# Altium footprint library SamacSys.PcbLib: 46 footprints (part 2 of 3)
Each footprint in its own frame and in the unit in brackets; x right, y up, seen from the top. Pads: shape width x height; smd on the part's side, far side on the other; paste and mask are expansions set on the pad; w line width, h text height; cw(c..) or ccw(c..) is an arc to the next point about the centre after c.
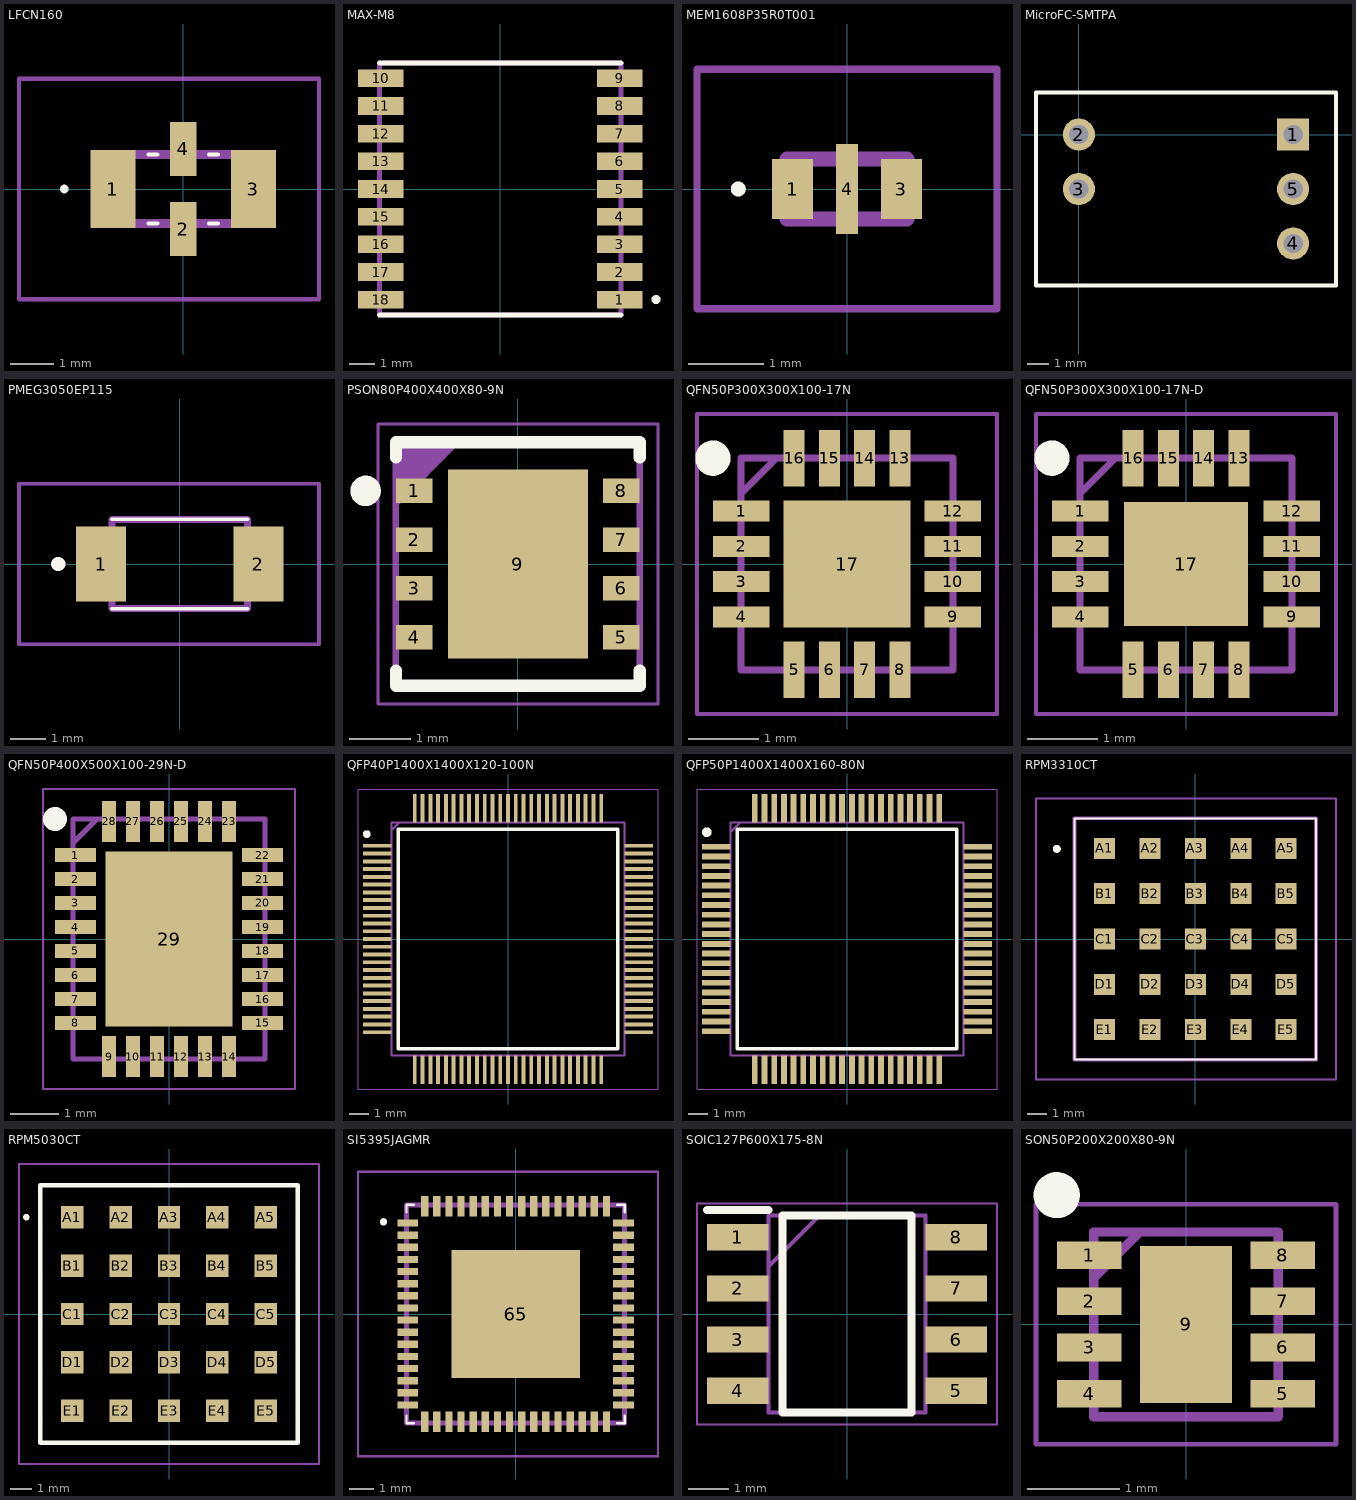
[diagram p1: the footprints below, top view; thin cyan lines are the x and y axes]

## LFCN160 [mm]
pads (4):
  rect 1.04x1.8 smd: 1(-1.625,0) 3(1.625,0)
  rect 0.61x1.245 smd: 2(0,-0.927) 4(0,0.928)
Top Overlay:
  lines w0.1: -0.8,-0.8 -0.6,-0.8 ; -0.8,0.8 -0.6,0.8 ; 0.6,-0.8 0.8,-0.8 ; 0.6,0.8 0.8,0.8 ; -2.8,0 ccw(c-2.75,0) -2.7,0 ccw(c-2.75,0) -2.8,0
Mechanical 13:
  lines w0.2: -1.6,-0.8 1.6,-0.8 1.6,0.8 -1.6,0.8 -1.6,-0.8
Mechanical 15:
  lines w0.1: -3.8,-2.55 3.145,-2.55 3.145,2.55 -3.8,2.55 -3.8,-2.55

## MAX-M8 [mm]
pads (18):
  rect 1.8x0.7 smd: 1(4.75,-4.4) 2(4.75,-3.3) 3(4.75,-2.2) 4(4.75,-1.1) 5(4.75,0) 6(4.75,1.1) 7(4.75,2.2) 8(4.75,3.3) 9(4.75,4.4) 10(-4.75,4.4) 11(-4.75,3.3) 12(-4.75,2.2) 13(-4.75,1.1) 14(-4.75,0) 15(-4.75,-1.1) 16(-4.75,-2.2) 17(-4.75,-3.3) 18(-4.75,-4.4)
Top Overlay:
  circle w0.2: c6.194,-4.394 r0.078
  lines w0.2: -4.8,-5 4.8,-5 ; -4.8,5 4.8,5
Mechanical 13:
  lines w0.2: -4.8,-5 -4.8,5 4.8,5 4.8,-5 -4.8,-5
3D body "MAX-M8Q--3DModel-STEP-56544.STEP": height 2.7, standoff 0, extent -4.85,-5.05 4.85,5.05

## MEM1608P35R0T001 [mm]
pads (3):
  rect 0.55x0.8 smd: 1(-0.725,0) 3(0.725,0)
  rect 0.3x1.2 smd: 4(0,0)
Top Overlay:
  lines w0.1: -1.5,0 ccw(c-1.45,0) -1.4,0 ccw(c-1.45,0) -1.5,0
Mechanical 13:
  lines w0.2: -0.8,-0.4 -0.8,0.4 0.8,0.4 0.8,-0.4 -0.8,-0.4
Mechanical 15:
  lines w0.1: -2,-1.6 -2,1.6 2,1.6 2,-1.6 -2,-1.6
3D body "MEM1608P35R0T001.stp": height 0.8, standoff 0, extent -0.945,-0.57 0.945,0.57

## MicroFC-SMTPA [mm]
pads (5):
  rect 1.5x1.5 hole 0.9: 1(10,0)
  round 1.5 hole 0.9: 2(0,0) 3(0,-2.54) 4(10,-5.08) 5(10,-2.54)
Top Overlay:
  lines w0.2: -2,-7.04 12,-7.04 12,1.96 -2,1.96 -2,-7.04
3D body: height 8, standoff 0, extent -1.905,-6.985 11.938,1.905

## PMEG3050EP115 [mm]
pads (2):
  rect 1.4x2.1 smd: 1(-2.2,0) 2(2.2,0)
Top Overlay:
  lines w0.1: -1.9,-1.25 1.9,-1.25 ; -1.9,1.25 1.9,1.25
  lines w0.2: -3.4,-0.1 cw(c-3.4,0) -3.4,0.1 cw(c-3.4,0) -3.4,-0.1
Mechanical 13:
  lines w0.2: -1.9,-1.25 -1.9,1.25 1.9,1.25 1.9,-1.25 -1.9,-1.25
Mechanical 15:
  lines w0.1: -4.5,-2.25 -4.5,2.25 3.9,2.25 3.9,-2.25 -4.5,-2.25
3D body "PMEG3050EP,115.stp": height 1.08, standoff 0.01, extent -2.326,-1.345 2.374,1.255

## PSON80P400X400X80-9N [mm]
pads (9):
  rect 0.6x0.4 smd: 1(-1.7,1.2) 2(-1.7,0.4) 3(-1.7,-0.4) 4(-1.7,-1.2) 5(1.7,-1.2) 6(1.7,-0.4) 7(1.7,0.4) 8(1.7,1.2)
  rect 2.3x3.1 smd: 9(0,0)
Top Overlay:
  circle w0.25: c-2.5,1.2 r0.125
  lines w0.2: -2,-1.75 -2,-2 2,-2 2,-1.75 ; -2,1.75 -2,2 2,2 2,1.75
Mechanical 13:
  lines w0.1: -2,1 -1,2 ; -2,1.1 -1.1,2 ; -2,1.2 -1.2,2 ; -2,1.3 -1.3,2 ; -2,1.4 -1.4,2 ; -2,1.5 -1.5,2 ; -2,1.6 -1.6,2 ; -2,1.7 -1.7,2 ; -2,1.8 -1.8,2 ; -2,1.9 -1.9,2 ; -2,-2 2,-2 2,2 -2,2 -2,-2
Mechanical 15:
  circle w0.05: c0,0 r0.35
  lines w0.001: -2.05,-2.05 2.05,-2.05 2.05,2.05 -2.05,2.05 -2.05,-2.05
  lines w0.05: -0.5,0 0.5,0 ; 0,-0.5 0,0.5 ; -2.3,-2.3 2.3,-2.3 2.3,2.3 -2.3,2.3 -2.3,-2.3
3D body "LM1086ILD-3.3_NOPB.stp": height 0.77, standoff 0, extent -2,-2 2,2

## QFN50P300X300X100-17N [mm]
pads (17):
  rect 0.8x0.3 smd: 1(-1.5,0.75) 2(-1.5,0.25) 3(-1.5,-0.25) 4(-1.5,-0.75) 9(1.5,-0.75) 10(1.5,-0.25) 11(1.5,0.25) 12(1.5,0.75)
  rect 0.3x0.8 smd: 5(-0.75,-1.5) 6(-0.25,-1.5) 7(0.25,-1.5) 8(0.75,-1.5) 13(0.75,1.5) 14(0.25,1.5) 15(-0.25,1.5) 16(-0.75,1.5)
  rect 1.8x1.8 smd: 17(0,0)
Top Overlay:
  circle w0.25: c-1.9,1.5 r0.125
Mechanical 13:
  lines w0.1: -1.5,1 -1,1.5 ; -1.5,-1.5 1.5,-1.5 1.5,1.5 -1.5,1.5 -1.5,-1.5
Mechanical 15:
  lines w0.05: -2.125,-2.125 2.125,-2.125 2.125,2.125 -2.125,2.125 -2.125,-2.125
3D body "LM324QT.stp": height 1, standoff 0, extent -1.55,-1.55 1.55,1.55

## QFN50P300X300X100-17N-D [mm]
pads (17):
  rect 0.8x0.3 smd: 1(-1.5,0.75) 2(-1.5,0.25) 3(-1.5,-0.25) 4(-1.5,-0.75) 9(1.5,-0.75) 10(1.5,-0.25) 11(1.5,0.25) 12(1.5,0.75)
  rect 0.3x0.8 smd: 5(-0.75,-1.5) 6(-0.25,-1.5) 7(0.25,-1.5) 8(0.75,-1.5) 13(0.75,1.5) 14(0.25,1.5) 15(-0.25,1.5) 16(-0.75,1.5)
  rect 1.75x1.75 smd: 17(0,0)
Top Overlay:
  circle w0.25: c-1.9,1.5 r0.125
Mechanical 13:
  lines w0.1: -1.5,1 -1,1.5 ; -1.5,-1.5 -1.5,1.5 1.5,1.5 1.5,-1.5 -1.5,-1.5
Mechanical 15:
  lines w0.05: -2.125,-2.125 -2.125,2.125 2.125,2.125 2.125,-2.125 -2.125,-2.125
3D body "LMH32401IRGTT.stp": height 1, standoff 0, extent -1.55,-1.55 1.55,1.55

## QFN50P400X500X100-29N-D [mm]
pads (29):
  rect 0.85x0.3 smd: 1(-1.95,1.75) 2(-1.95,1.25) 3(-1.95,0.75) 4(-1.95,0.25) 5(-1.95,-0.25) 6(-1.95,-0.75) 7(-1.95,-1.25) 8(-1.95,-1.75) 15(1.95,-1.75) 16(1.95,-1.25) 17(1.95,-0.75) 18(1.95,-0.25) 19(1.95,0.25) 20(1.95,0.75) 21(1.95,1.25) 22(1.95,1.75)
  rect 0.3x0.85 smd: 9(-1.25,-2.45) 10(-0.75,-2.45) 11(-0.25,-2.45) 12(0.25,-2.45) 13(0.75,-2.45) 14(1.25,-2.45) 23(1.25,2.45) 24(0.75,2.45) 25(0.25,2.45) 26(-0.25,2.45) 27(-0.75,2.45) 28(-1.25,2.45)
  rect 2.65x3.65 smd: 29(0,0)
Top Overlay:
  circle w0.25: c-2.375,2.5 r0.125
Mechanical 13:
  lines w0.1: -2,2 -1.5,2.5 ; -2,-2.5 2,-2.5 2,2.5 -2,2.5 -2,-2.5
Mechanical 15:
  lines w0.05: -2.625,-3.125 2.625,-3.125 2.625,3.125 -2.625,3.125 -2.625,-3.125
3D body "LMH32404IRHFR.stp": height 1, standoff 0, extent -2,-2.5 2,2.5

## QFP40P1400X1400X120-100N [mm]
pads (100):
  rect 1.475x0.2 smd: 1(-6.738,4.8) 2(-6.738,4.4) 3(-6.738,4) 4(-6.738,3.6) 5(-6.738,3.2) 6(-6.738,2.8) 7(-6.738,2.4) 8(-6.738,2) 9(-6.738,1.6) 10(-6.738,1.2) 11(-6.738,0.8) 12(-6.738,0.4) 13(-6.738,0) 14(-6.738,-0.4) 15(-6.738,-0.8) 16(-6.738,-1.2) 17(-6.738,-1.6) 18(-6.738,-2) 19(-6.738,-2.4) 20(-6.738,-2.8) 21(-6.738,-3.2) 22(-6.738,-3.6) 23(-6.738,-4) 24(-6.738,-4.4) 25(-6.738,-4.8) 51(6.738,-4.8) 52(6.738,-4.4) 53(6.738,-4) 54(6.738,-3.6) 55(6.738,-3.2) 56(6.738,-2.8) 57(6.738,-2.4) 58(6.738,-2) 59(6.738,-1.6) 60(6.738,-1.2) 61(6.738,-0.8) 62(6.738,-0.4) 63(6.738,0) 64(6.738,0.4) 65(6.738,0.8) 66(6.738,1.2) 67(6.738,1.6) 68(6.738,2) 69(6.738,2.4) 70(6.738,2.8) 71(6.738,3.2) 72(6.738,3.6) 73(6.738,4) 74(6.738,4.4) 75(6.738,4.8)
  rect 0.2x1.475 smd: 26(-4.8,-6.738) 27(-4.4,-6.738) 28(-4,-6.738) 29(-3.6,-6.738) 30(-3.2,-6.738) 31(-2.8,-6.738) 32(-2.4,-6.738) 33(-2,-6.738) 34(-1.6,-6.738) 35(-1.2,-6.738) 36(-0.8,-6.738) 37(-0.4,-6.738) 38(0,-6.738) 39(0.4,-6.738) 40(0.8,-6.738) 41(1.2,-6.738) 42(1.6,-6.738) 43(2,-6.738) 44(2.4,-6.738) 45(2.8,-6.738) 46(3.2,-6.738) 47(3.6,-6.738) 48(4,-6.738) 49(4.4,-6.738) 50(4.8,-6.738) 76(4.8,6.738) 77(4.4,6.738) 78(4,6.738) 79(3.6,6.738) 80(3.2,6.738) 81(2.8,6.738) 82(2.4,6.738) 83(2,6.738) 84(1.6,6.738) 85(1.2,6.738) 86(0.8,6.738) 87(0.4,6.738) 88(0,6.738) 89(-0.4,6.738) 90(-0.8,6.738) 91(-1.2,6.738) 92(-1.6,6.738) 93(-2,6.738) 94(-2.4,6.738) 95(-2.8,6.738) 96(-3.2,6.738) 97(-3.6,6.738) 98(-4,6.738) 99(-4.4,6.738) 100(-4.8,6.738)
Top Overlay:
  circle w0.2: c-7.275,5.4 r0.1
  lines w0.2: -5.65,-5.65 -5.65,5.65 5.65,5.65 5.65,-5.65 -5.65,-5.65
Mechanical 13:
  lines w0.1: -6,5.6 -5.6,6 ; -6,-6 -6,6 6,6 6,-6 -6,-6
Mechanical 15:
  lines w0.05: -7.725,-7.725 -7.725,7.725 7.725,7.725 7.725,-7.725 -7.725,-7.725
3D body "PIC24FJ512GL410-I_PT.stp": height 1.2, standoff 0, extent -7,-7 7,7

## QFP50P1400X1400X160-80N [mm]
pads (80):
  rect 1.475x0.3 smd: 1(-6.738,4.75) 2(-6.738,4.25) 3(-6.738,3.75) 4(-6.738,3.25) 5(-6.738,2.75) 6(-6.738,2.25) 7(-6.738,1.75) 8(-6.738,1.25) 9(-6.738,0.75) 10(-6.738,0.25) 11(-6.738,-0.25) 12(-6.738,-0.75) 13(-6.738,-1.25) 14(-6.738,-1.75) 15(-6.738,-2.25) 16(-6.738,-2.75) 17(-6.738,-3.25) 18(-6.738,-3.75) 19(-6.738,-4.25) 20(-6.738,-4.75) 41(6.738,-4.75) 42(6.738,-4.25) 43(6.738,-3.75) 44(6.738,-3.25) 45(6.738,-2.75) 46(6.738,-2.25) 47(6.738,-1.75) 48(6.738,-1.25) 49(6.738,-0.75) 50(6.738,-0.25) 51(6.738,0.25) 52(6.738,0.75) 53(6.738,1.25) 54(6.738,1.75) 55(6.738,2.25) 56(6.738,2.75) 57(6.738,3.25) 58(6.738,3.75) 59(6.738,4.25) 60(6.738,4.75)
  rect 0.3x1.475 smd: 21(-4.75,-6.738) 22(-4.25,-6.738) 23(-3.75,-6.738) 24(-3.25,-6.738) 25(-2.75,-6.738) 26(-2.25,-6.738) 27(-1.75,-6.738) 28(-1.25,-6.738) 29(-0.75,-6.738) 30(-0.25,-6.738) 31(0.25,-6.738) 32(0.75,-6.738) 33(1.25,-6.738) 34(1.75,-6.738) 35(2.25,-6.738) 36(2.75,-6.738) 37(3.25,-6.738) 38(3.75,-6.738) 39(4.25,-6.738) 40(4.75,-6.738) 61(4.75,6.738) 62(4.25,6.738) 63(3.75,6.738) 64(3.25,6.738) 65(2.75,6.738) 66(2.25,6.738) 67(1.75,6.738) 68(1.25,6.738) 69(0.75,6.738) 70(0.25,6.738) 71(-0.25,6.738) 72(-0.75,6.738) 73(-1.25,6.738) 74(-1.75,6.738) 75(-2.25,6.738) 76(-2.75,6.738) 77(-3.25,6.738) 78(-3.75,6.738) 79(-4.25,6.738) 80(-4.75,6.738)
Top Overlay:
  circle w0.25: c-7.225,5.5 r0.125
  lines w0.2: -5.65,-5.65 -5.65,5.65 5.65,5.65 5.65,-5.65 -5.65,-5.65
Mechanical 13:
  lines w0.1: -6,5.5 -5.5,6 ; -6,-6 -6,6 6,6 6,-6 -6,-6
Mechanical 15:
  lines w0.05: -7.725,-7.725 -7.725,7.725 7.725,7.725 7.725,-7.725 -7.725,-7.725
3D body "BU97540KV-ME2.stp": height 1.6, standoff 0, extent -7,-7 7,7

## RPM3310CT [mm]
pads (25):
  rect 1.06x1.06 smd: A1(-4.58,4.58) A2(-2.29,4.58) A3(0,4.58) A4(2.29,4.58) A5(4.58,4.58) B1(-4.58,2.29) B2(-2.29,2.29) B3(0,2.29) B4(2.29,2.29) B5(4.58,2.29) C1(-4.58,0) C2(-2.29,0) C3(0,0) C4(2.29,0) C5(4.58,0) D1(-4.58,-2.29) D2(-2.29,-2.29) D3(0,-2.29) D4(2.29,-2.29) D5(4.58,-2.29) E1(-4.58,-4.58) E2(-2.29,-4.58) E3(0,-4.58) E4(2.29,-4.58) E5(4.58,-4.58)
Top Overlay:
  lines w0.1: -6.095,-6.095 6.095,-6.095 6.095,6.095 -6.095,6.095 -6.095,-6.095
  lines w0.3: -7,4.5 ccw(c-7,4.55) -7,4.6 ccw(c-7,4.55) -7,4.5
Mechanical 13:
  lines w0.2: -6.095,-6.095 6.095,-6.095 6.095,6.095 -6.095,6.095 -6.095,-6.095
Mechanical 15:
  lines w0.1: -8.05,-7.095 7.095,-7.095 7.095,7.095 -8.05,7.095 -8.05,-7.095
3D body "RPM3.3-1.0.stp": height 3.97, standoff 0, extent -6.82,-6.19 5.87,6.2

## RPM5030CT [mm]
pads (25):
  rect 1.06x1.06 smd: A1(-4.58,4.58) A2(-2.29,4.58) A3(0,4.58) A4(2.29,4.58) A5(4.58,4.58) B1(-4.58,2.29) B2(-2.29,2.29) B3(0,2.29) B4(2.29,2.29) B5(4.58,2.29) C1(-4.58,0) C2(-2.29,0) C3(0,0) C4(2.29,0) C5(4.58,0) D1(-4.58,-2.29) D2(-2.29,-2.29) D3(0,-2.29) D4(2.29,-2.29) D5(4.58,-2.29) E1(-4.58,-4.58) E2(-2.29,-4.58) E3(0,-4.58) E4(2.29,-4.58) E5(4.58,-4.58)
Top Overlay:
  lines w0.2: -6.8,4.58 ccw(c-6.75,4.58) -6.7,4.58 ; -6.8,4.58 cw(c-6.75,4.58) -6.7,4.58 ; -6.8,4.58 ccw(c-6.75,4.58) -6.7,4.58 ; -6.095,-6.095 6.095,-6.095 6.095,6.095 -6.095,6.095 -6.095,-6.095
Mechanical 13:
  lines w0.1: -6.095,-6.095 6.095,-6.095 6.095,6.095 -6.095,6.095 -6.095,-6.095
Mechanical 15:
  lines w0.1: -7.095,-7.095 7.095,-7.095 7.095,7.095 -7.095,7.095 -7.095,-7.095
3D body "RPM5.0-3.0-CT.stp": height 3.97, standoff 0, extent -6.34,-6.19 6.35,6.2

## SI5395JAGMR [mm]
pads (65):
  rect 0.85x0.3 smd: 1(-4.45,3.75) 2(-4.45,3.25) 3(-4.45,2.75) 4(-4.45,2.25) 5(-4.45,1.75) 6(-4.45,1.25) 7(-4.45,0.75) 8(-4.45,0.25) 9(-4.45,-0.25) 10(-4.45,-0.75) 11(-4.45,-1.25) 12(-4.45,-1.75) 13(-4.45,-2.25) 14(-4.45,-2.75) 15(-4.45,-3.25) 16(-4.45,-3.75) 33(4.45,-3.75) 34(4.45,-3.25) 35(4.45,-2.75) 36(4.45,-2.25) 37(4.45,-1.75) 38(4.45,-1.25) 39(4.45,-0.75) 40(4.45,-0.25) 41(4.45,0.25) 42(4.45,0.75) 43(4.45,1.25) 44(4.45,1.75) 45(4.45,2.25) 46(4.45,2.75) 47(4.45,3.25) 48(4.45,3.75)
  rect 0.3x0.85 smd: 17(-3.75,-4.45) 18(-3.25,-4.45) 19(-2.75,-4.45) 20(-2.25,-4.45) 21(-1.75,-4.45) 22(-1.25,-4.45) 23(-0.75,-4.45) 24(-0.25,-4.45) 25(0.25,-4.45) 26(0.75,-4.45) 27(1.25,-4.45) 28(1.75,-4.45) 29(2.25,-4.45) 30(2.75,-4.45) 31(3.25,-4.45) 32(3.75,-4.45) 49(3.75,4.45) 50(3.25,4.45) 51(2.75,4.45) 52(2.25,4.45) 53(1.75,4.45) 54(1.25,4.45) 55(0.75,4.45) 56(0.25,4.45) 57(-0.25,4.45) 58(-0.75,4.45) 59(-1.25,4.45) 60(-1.75,4.45) 61(-2.25,4.45) 62(-2.75,4.45) 63(-3.25,4.45) 64(-3.75,4.45)
  rect 5.3x5.3 smd: 65(0,0)
Top Overlay:
  lines w0.1: -4.5,-4.5 -4.2,-4.5 -4.5,-4.5 ; -4.5,-4.5 -4.5,-4.2 -4.5,-4.5 ; -4.5,4.5 -4.2,4.5 -4.5,4.5 ; -4.5,4.5 -4.5,4.2 -4.5,4.5 ; 4.5,-4.5 4.5,-4.2 4.5,-4.5 ; 4.5,-4.5 4.2,-4.5 4.5,-4.5 ; 4.5,4.5 4.5,4.2 4.5,4.5 ; 4.5,4.5 4.2,4.5 4.5,4.5
  lines w0.2: -5.5,3.8 cw(c-5.45,3.8) -5.4,3.8 ; -5.5,3.8 ccw(c-5.45,3.8) -5.4,3.8 ; -5.5,3.8 cw(c-5.45,3.8) -5.4,3.8
Mechanical 13:
  lines w0.2: -4.5,-4.5 4.5,-4.5 4.5,4.5 -4.5,4.5 -4.5,-4.5
Mechanical 15:
  lines w0.1: -6.5,-5.875 5.875,-5.875 5.875,5.875 -6.5,5.875 -6.5,-5.875
3D body "SI5395J-A-GMR.stp": height 1.2, standoff 0, extent -4.5,-4.5 4.5,4.5

## SOIC127P600X175-8N [mm]
pads (8):
  rect 1.525x0.65 smd: 1(-2.712,1.905) 2(-2.712,0.635) 3(-2.712,-0.635) 4(-2.712,-1.905) 5(2.712,-1.905) 6(2.712,-0.635) 7(2.712,0.635) 8(2.712,1.905)
Top Overlay:
  lines w0.2: -3.475,2.58 -1.95,2.58 ; -1.6,-2.45 1.6,-2.45 1.6,2.45 -1.6,2.45 -1.6,-2.45
Mechanical 13:
  lines w0.1: -1.95,1.18 -0.68,2.45 ; -1.95,-2.45 1.95,-2.45 1.95,2.45 -1.95,2.45 -1.95,-2.45
Mechanical 15:
  lines w0.05: -3.725,-2.75 3.725,-2.75 3.725,2.75 -3.725,2.75 -3.725,-2.75
3D body "NE555DR.stp": height 1.75, standoff 0, extent -3,-2.45 3,2.45

## SON50P200X200X80-9N [mm]
pads (9):
  rect 0.7x0.3 smd: 1(-1.05,0.75) 2(-1.05,0.25) 3(-1.05,-0.25) 4(-1.05,-0.75) 5(1.05,-0.75) 6(1.05,-0.25) 7(1.05,0.25) 8(1.05,0.75)
  rect 1x1.7 smd: 9(0,0)
Top Overlay:
  circle w0.25: c-1.4,1.4 r0.125
Mechanical 13:
  lines w0.1: -1,0.5 -0.5,1 ; -1,-1 -1,1 1,1 1,-1 -1,-1
Mechanical 15:
  lines w0.05: -1.625,-1.3 -1.625,1.3 1.625,1.3 1.625,-1.3 -1.625,-1.3
3D body "BQ296228DSGR.stp": height 0.77, standoff 0, extent -1,-1 1,1